# Altium schematic symbol library Discharge.SchLib: 1 symbol
Pins are listed as number, name and electrical type; pins without a type are passive.

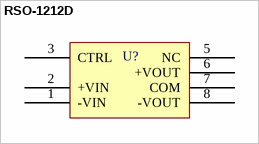
[diagram p0: symbol RSO-1212D]

## RSO-1212D
designator U?
9-18Vin to +/-12Vout DCDC converter, 1W; ComponentLink1Description: Datasheet; ComponentLink1URL: https://www.recom-power.com/pdf/Econoline/RSO-S_D_Z.pdf
footprint RSO-XX12D (Econoline DCDC +/- 12V output SIP 8 Package)
pins: 1 -VIN, 2 +VIN, 3 CTRL, 5 NC, 6 +VOUT, 7 COM, 8 -VOUT